# Altium schematic symbol library NSV1C201MZ4.SchLib: 1 symbol
Pins are listed as number, name and electrical type; pins without a type are passive.

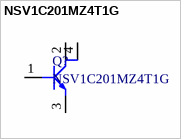
[diagram p0: symbol NSV1C201MZ4T1G]

## NSV1C201MZ4T1G
designator Q?
100V, 2.0A, LOW Vce(sat), NPN Transistor
footprint SOT230P700X180-4N (SOT223, 4-Leads, Body 6.50x7.00mm (avg), Pitch 2.30mm, IPC Medium Density)
pins: 1, 2, 3, 4